# Altium integrated library lib_microchip.IntLib: 6 symbols
Pins are listed as number, name and electrical type; pins without a type are passive.

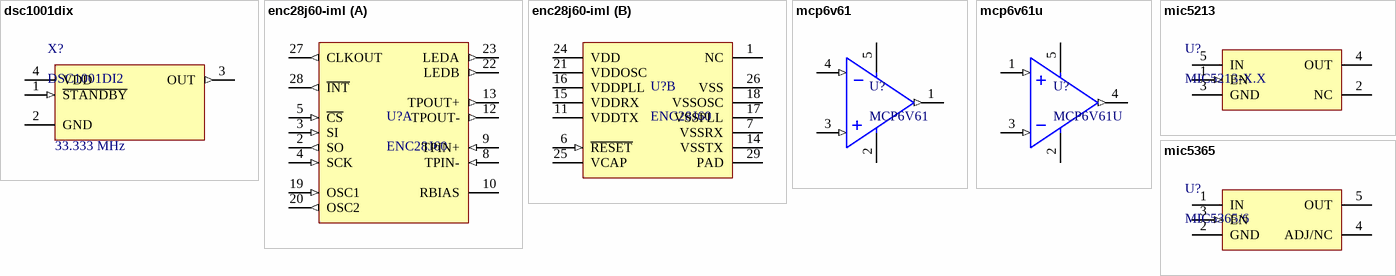
[diagram p0: symbols dsc1001dix to mic5365]

## dsc1001dix
designator X?, comment DSC1001DI2  Frequency: 33.333 MHz
1.8V-3.3V Low-Power Precision CMOS Oscillators
footprint DFN165P200X90-4N_DSC1001DIx (DFN, 4-Leads, Body 2.50x2.00mm, Pitch 1.65mm, IPC Medium Density)
pins: 1 ~{STANDBY} (in), 2 GND (power), 3 OUT (out), 4 VDD (power)

## enc28j60-iml
designator U?, comment ENC28J60
Stand-Alone Ethernet Controller with SPI Interface; ComponentLink1Description: Datasheet; ComponentLink1URL: http://ww1.microchip.com/downloads/en/DeviceDoc/39662e.pdf
footprint QFN65P600X600X100_HS-29N-ENC28J60 (QFN, 28-Leads, Body 6.00x6.00mm, Pitch 0.65mm, Thermal Pad 4.25x4.25mm, IPC Medium Density)
part A pins: 2 SO (out), 3 SI (in), 4 SCK (in), 5 ~{CS} (in), 8 TPIN- (in), 9 TPIN+ (in), 10 RBIAS, 12 TPOUT- (out), 13 TPOUT+ (out), 19 OSC1 (in), 20 OSC2 (out), 22 LEDB (out), 23 LEDA (out), 27 CLKOUT (out), 28 ~{INT} (out)
part B pins: 1 NC (power), 6 ~{RESET} (in), 7 VSSRX (power), 11 VDDTX (power), 14 VSSTX (power), 15 VDDRX (power), 16 VDDPLL (power), 17 VSSPLL (power), 18 VSSOSC (power), 21 VDDOSC (power), 24 VDD (power), 25 VCAP (power), 26 VSS (power), 29 PAD (power)

## mcp6v61
designator U?, comment MCP6V61
80 µA, 1 MHz Zero-Drift Op Amps; ComponentLink1Description: Datasheet; ComponentLink1URL: http://ww1.microchip.com/downloads/en/DeviceDoc/20005367B.pdf; #digikey: *; #mouser: *
footprint SOT95P270X145-5N (SOT23, 5-Leads, Body 2,90x2,70mm, Pitch 0,95mm, IPC Medium Density)
pins: 1 OUT (out), 2 VSS (power), 3 IN+ (in), 4 IN- (in), 5 VDD (power)

## mcp6v61u
designator U?, comment MCP6V61U
80 µA, 1 MHz Zero-Drift Op Amps; ComponentLink1Description: Datasheet; ComponentLink1URL: http://ww1.microchip.com/downloads/en/DeviceDoc/20005367B.pdf; #digikey: *; #mouser: *
footprint SOT95P270X145-5N (SOT23, 5-Leads, Body 2,90x2,70mm, Pitch 0,95mm, IPC Medium Density)
footprint SOT65P210X110-5N (SOT23, 5-Leads, Body 2.03x2.10mm, Pitch 0.65mm, IPC Medium Density)
pins: 1 IN+ (in), 2 VSS (power), 3 IN- (in), 4 OUT (out), 5 VDD (power)

## mic5213
designator U?, comment MIC5213-X.X
Teeny™ SC-70 µCap Low-Dropout Regulator; #digikey: *; #mouser: *
footprint SOT65P210X110-5N (SOT23, 5-Leads, Body 2.03x2.10mm, Pitch 0.65mm, IPC Medium Density)
pins: 1 EN (in), 2 NC, 3 GND (power), 4 OUT (power), 5 IN (power)

## mic5365
designator U?, comment MIC5365/6
5pin voltage regulator; #digikey: *; #mouser: *
footprint SOT65P210X110-5N (SOT23, 5-Leads, Body 2.03x2.10mm, Pitch 0.65mm, IPC Medium Density)
pins: 1 IN (power), 2 GND (power), 3 EN (in), 4 ADJ/NC, 5 OUT (power)